# EAGLE library part XS3868 (library XS3868)
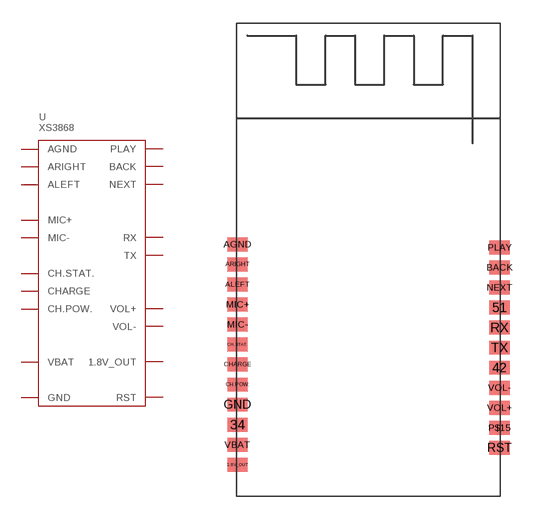
[diagram p0: symbol with the pads of XS3868; footprint XS3868]

Designator prefix U

## XS3868  [XS3868]
1.8V_OUT  1.8V_OUT
AGND  AGND
ALEFT  ALEFT
ARIGHT  ARIGHT
BACK  BACK
CH.POW.  CH.POW.
CH.STAT.  CH.STAT.
CHARGE  CHARGE
GND  GND
MIC+  MIC+
MIC-  MIC-
NEXT  NEXT
PLAY  PLAY
RST  RST
RX  RX
TX  TX
VBAT  VBAT
VOL+  VOL+
VOL-  VOL-

## Footprint XS3868 (pad centres in mm)
smd 1.3 x 0.9: 1.8V_OUT 0,2; 34 0,4.6; 42 17,8.3; 51 17,12.2; AGND 0,16.3; ALEFT 0,13.7; ARIGHT 0,15; BACK 17,14.8; CH.POW. 0,7.2; CH.STAT. 0,9.8; CHARGE 0,8.5; GND 0,5.9; MIC+ 0,12.4; MIC- 0,11.1; NEXT 17,13.5; P$15 17,4.4; PLAY 17,16.1; RST 17,3.1; RX 17,10.9; TX 17,9.6; VBAT 0,3.3; VOL+ 17,5.7; VOL- 17,7